# Altium footprint library SXLP-450+.PcbLib: 1 footprints
Each footprint in its own frame and in the unit in brackets; x right, y up, seen from the top. Pads: shape width x height; smd on the part's side, far side on the other; paste and mask are expansions set on the pad; w line width, h text height; cw(c..) or ccw(c..) is an arc to the next point about the centre after c.
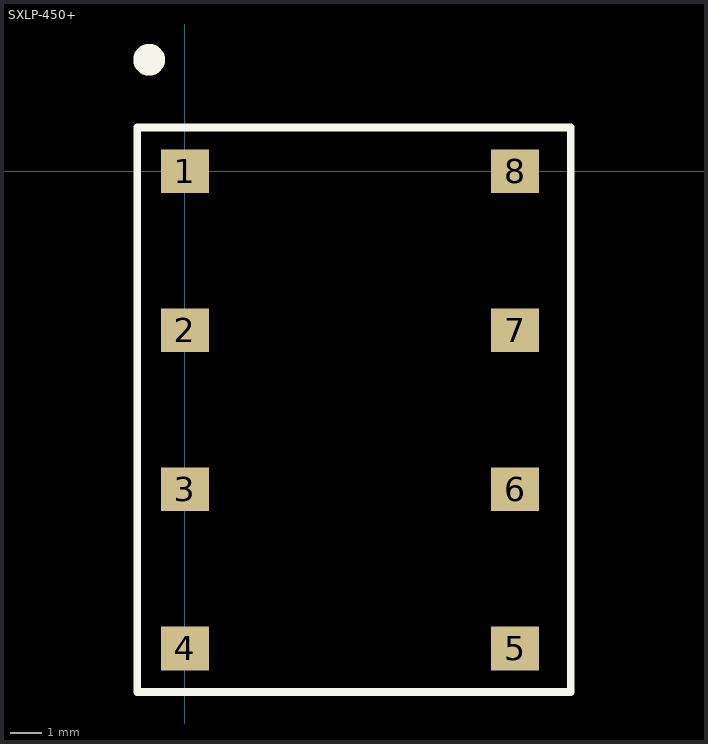
[diagram p0: the footprint, top view; thin cyan lines are the x and y axes]

## SXLP-450+ [mil]
pads (8):
  rect 60x55 smd: 1(0,0) 2(0,-200) 3(0,-400) 4(0,-600) 5(415,-600) 6(415,-400) 7(415,-200) 8(415,0)
Top Overlay:
  circle w30: c-45,140 r5
  lines w10: -60,-655 485,-655 485,55 -60,55 -60,-655